# EAGLE library part YH-55-10 (library con-wenzhou-yihua)
RJ11 6 connects Source: YH-55-10.pdf
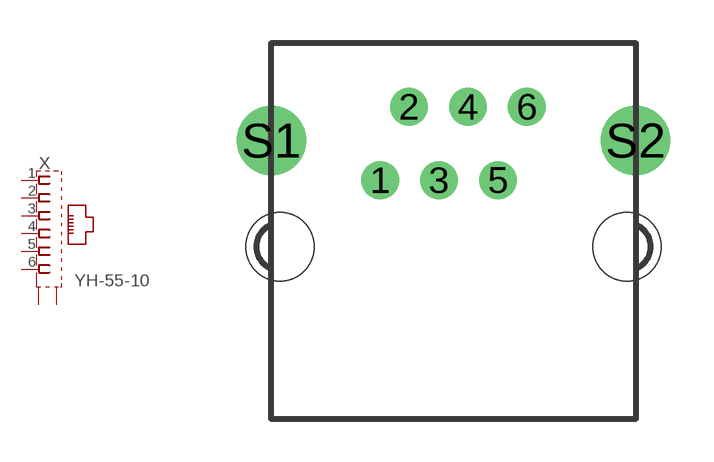
[diagram p0: symbol with the pads of YH-55-10; footprint YH-55-10]

Designator prefix X

## YH-55-10 (OC_FARNELL: unknown; OC_NEWARK: unknown)  [YH-55-10]
1  1  pas
2  2  pas
3  3  pas
4  4  pas
5  5  pas
6  6  pas
S1  S  pas
S2  S  pas

## Footprint YH-55-10 (pad centres in mm)
RJ11 6 connects Source: YH-55-10.pdf
drill 0.8 pad 1.3: 1 -2.54,2.3; 2 -1.54,4.84; 3 -0.5,2.3; 4 0.5,4.84; 5 1.54,2.3; 6 2.54,4.84
drill 1.6 pad 2.184: S1 -6.3,3.68; S2 6.3,3.68
hole 2.36 at -6,0
hole 2.36 at 6,0